# Altium footprint library DAQ.PcbLib: 37 footprints (part 2 of 3)
Each footprint in its own frame and in the unit in brackets; x right, y up, seen from the top. Pads: shape width x height; smd on the part's side, far side on the other; paste and mask are expansions set on the pad; w line width, h text height; cw(c..) or ccw(c..) is an arc to the next point about the centre after c.
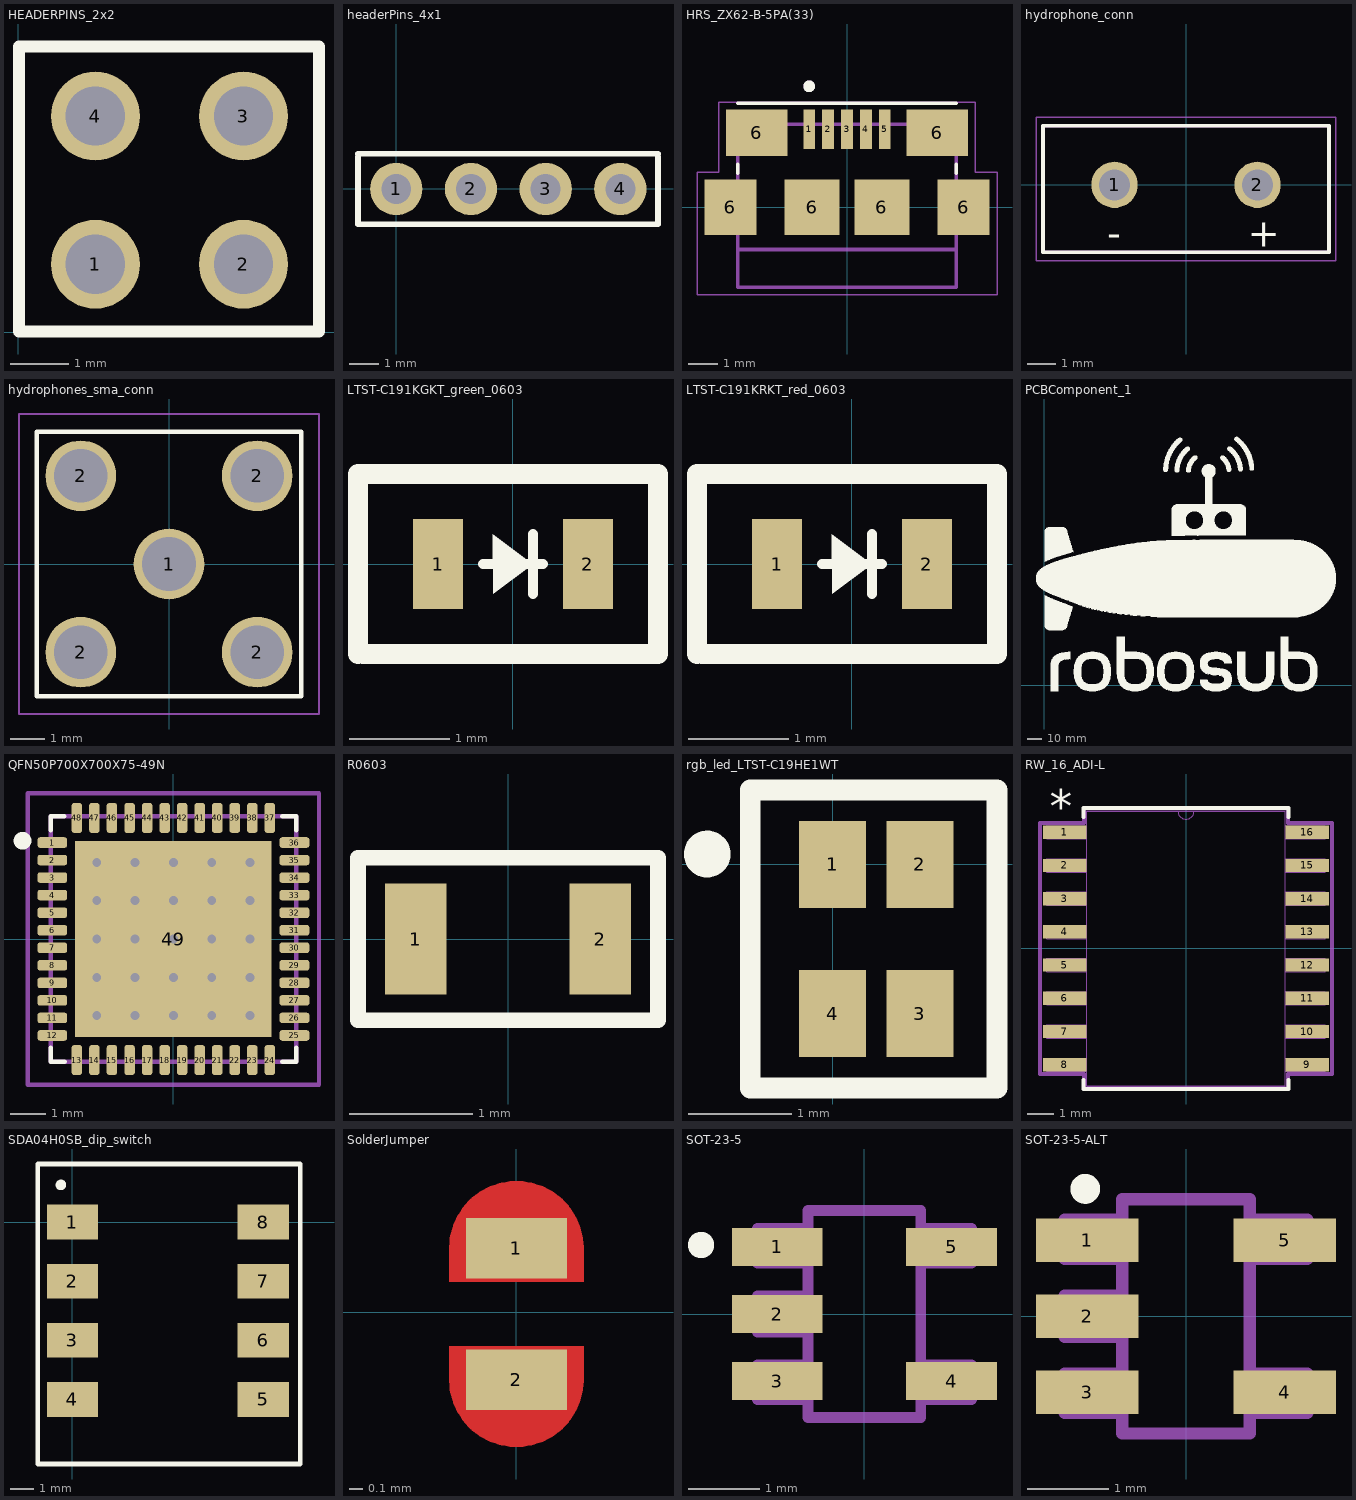
[diagram p1: the footprints below, top view; thin cyan lines are the x and y axes]

## HEADERPINS_2x2 [mil]
pads (4):
  round 60 hole 40: 1(52,46) 2(152,46) 3(152,146) 4(52,146)
Top Overlay:
  lines w7.87: 0.46,0.54 0.46,193 203,193 203,0.54 0.46,0.54
3D body "2x2.stp": height 330.5, standoff -99.5, extent 2,-3 202,197

## headerPins_4x1 [mil]
pads (4):
  round 70 hole 40: 1(0,0) 2(100,0) 3(200,0) 4(300,0)
Top Overlay:
  lines w7.87: -51.18,43.31 -51.18,-47.24 350.39,-47.24 350.39,43.31 ; -51.18,47.24 350.39,47.24

## HRS_ZX62-B-5PA(33) [mm]
pads (11):
  rect 0.4x1.35 smd: 1(-1.3,2.675) 2(-0.65,2.675) 3(0,2.675) 4(0.65,2.675) 5(1.3,2.675)
  rect 1.8x1.9 smd: 6(-4,0) 6(4,0)
  rect 2.1x1.6 smd: 6(-3.1,2.55) 6(3.1,2.55)
  rect 1.9x1.9 smd: 6(-1.2,0) 6(1.2,0)
Top Overlay:
  circle w0.2: c-1.3,4.15 r0.1
  lines w0.127: -3.75,1.17 -3.75,1.47 ; -3.75,3.57 3.75,3.57 ; 3.75,1.17 3.75,1.47
Mechanical 7:
  lines w0.127: -3.75,-1.25 -3.75,-1.45 3.75,-1.45 3.75,-1.25
Mechanical 13:
  circle w0.2: c-1.3,4.15 r0.1
  lines w0.127: -3.75,-2.75 3.75,-2.75 3.75,-1.45 3.75,2.85 -3.75,2.85 -3.75,-2.75
Mechanical 15:
  lines w0.05: -5.15,-3 5.15,-3 5.15,1.2 4.4,1.2 4.4,3.6 -4.4,3.6 -4.4,1.2 -5.15,1.2 -5.15,-3
3D body "ZX62-B-5PA(33).stp": height 2.76, standoff -0.19, extent -4.037,-2.578 4.037,3.023

## hydrophone_conn [mm]
pads (2):
  round 1.65 hole 1.1: 1(-2.54,0) 2(2.54,0)
Top Overlay:
  lines w0.127: -5.08,-2.4 5.08,-2.4 5.08,2.1 -5.08,2.1 -5.08,-2.4
  text "-" at -2.8,-2.2 h1
  text "+" at 2.2,-2.2 h1
Mechanical 4:
  lines w0.127: -5.08,-2.4 5.08,-2.4 ; -5.08,-2.4 -5.08,2.1 ; -5.08,-2.4 5.08,-2.4 ; -5.08,-2.4 -5.08,2.1 ; -5.08,2.1 5.08,2.1 ; -5.08,2.1 5.08,2.1 ; 5.08,-2.4 5.08,2.1 ; 5.08,-2.4 5.08,2.1
Mechanical 16:
  lines w0.05: -5.33,-2.7 5.33,-2.7 5.33,2.4 -5.33,2.4 -5.33,-2.7

## hydrophones_sma_conn [mil]
pads (5):
  round 80 hole 61: 1(0,0) 2(-100,-100) 2(-100,100) 2(100,-100) 2(100,100)
Top Overlay:
  lines w5: -150,-150 150,-150 150,150 -150,150 -150,-110.24 -150,-150
Mechanical 16:
  lines w1.97: -170,-170 -170,170 170,170 170,-170 -170,-170
3D body "731000115.STEP": height 377.27, standoff -154.22, extent -125,-456.69 125,125.98

## LTST-C191KGKT_green_0603 [mm]
pads (2):
  rect 0.5x0.9 smd: 1(-0.75,0) 2(0.75,0)
Top Overlay:
  region: -0.075,0.575
  region: -0.2,0.3 -0.2,-0.3 0.2,0
  lines w0.1: -0.3,0 0.3,0 ; 0.2,-0.3 0.2,0.3
  lines w0.2: -1.55,-0.9 -1.55,0 -1.55,0.9 1.45,0.9 1.45,-0.9 -1.5,-0.9
3D body "LTST-C190KRKT--3DModel-STEP-56544.STEP": height 0.81, standoff 0.01, extent -0.8,-0.4 0.8,0.4

## LTST-C191KRKT_red_0603 [mm]
pads (2):
  rect 0.5x0.9 smd: 1(-0.75,0) 2(0.75,0)
Top Overlay:
  region: -0.075,0.575
  region: -0.2,0.3 -0.2,-0.3 0.2,0
  lines w0.1: -0.3,0 0.3,0 ; 0.2,-0.3 0.2,0.3
  lines w0.2: -1.55,-0.9 -1.55,0 -1.55,0.9 1.45,0.9 1.45,-0.9 -1.5,-0.9
3D body "LTST-C190KRKT--3DModel-STEP-56544.STEP": height 0.81, standoff 0.01, extent -0.8,-0.4 0.8,0.4

## PCBComponent_1 [mm]
Top Overlay:
  drawing of 17 lines, arcs and shapes, not listed

## QFN50P700X700X75-49N [mm]
pads (49):
  rrect50% 0.85x0.3 smd paste-0.025: 1(-3.45,2.75) 2(-3.45,2.25) 3(-3.45,1.75) 4(-3.45,1.25) 5(-3.45,0.75) 6(-3.45,0.25) 7(-3.45,-0.25) 8(-3.45,-0.75) 9(-3.45,-1.25) 10(-3.45,-1.75) 11(-3.45,-2.25) 12(-3.45,-2.75) 25(3.45,-2.75) 26(3.45,-2.25) 27(3.45,-1.75) 28(3.45,-1.25) 29(3.45,-0.75) 30(3.45,-0.25) 31(3.45,0.25) 32(3.45,0.75) 33(3.45,1.25) 34(3.45,1.75) 35(3.45,2.25) 36(3.45,2.75)
  rrect50% 0.3x0.85 smd paste-0.025: 13(-2.75,-3.45) 14(-2.25,-3.45) 15(-1.75,-3.45) 16(-1.25,-3.45) 17(-0.75,-3.45) 18(-0.25,-3.45) 19(0.25,-3.45) 20(0.75,-3.45) 21(1.25,-3.45) 22(1.75,-3.45) 23(2.25,-3.45) 24(2.75,-3.45) 37(2.75,3.45) 38(2.25,3.45) 39(1.75,3.45) 40(1.25,3.45) 41(0.75,3.45) 42(0.25,3.45) 43(-0.25,3.45) 44(-0.75,3.45) 45(-1.25,3.45) 46(-1.75,3.45) 47(-2.25,3.45) 48(-2.75,3.45)
  rect 5.6x5.6 smd paste-2.54: 49(0,0)
via -2.184,-2.184 diameter 0.559 hole 0.254
via -1.092,-2.184 diameter 0.559 hole 0.254
via 0,-2.184 diameter 0.559 hole 0.254
via 1.092,-2.184 diameter 0.559 hole 0.254
via 2.184,-2.184 diameter 0.559 hole 0.254
via 2.184,-1.092 diameter 0.559 hole 0.254
via 1.092,-1.092 diameter 0.559 hole 0.254
via 0,-1.092 diameter 0.559 hole 0.254
via -1.092,-1.092 diameter 0.559 hole 0.254
via -2.184,-1.092 diameter 0.559 hole 0.254
via -2.184,2.184 diameter 0.559 hole 0.254
via -2.184,1.092 diameter 0.559 hole 0.254
via -2.184,0 diameter 0.559 hole 0.254
via -1.092,0 diameter 0.559 hole 0.254
via -1.092,1.092 diameter 0.559 hole 0.254
via -1.092,2.184 diameter 0.559 hole 0.254
via 1.092,2.184 diameter 0.559 hole 0.254
via 2.184,2.184 diameter 0.559 hole 0.254
via 2.184,1.092 diameter 0.559 hole 0.254
via 1.092,1.092 diameter 0.559 hole 0.254
via 2.184,0 diameter 0.559 hole 0.254
via 1.092,0 diameter 0.559 hole 0.254
via 0,2.184 diameter 0.559 hole 0.254
via 0,1.092 diameter 0.559 hole 0.254
via 0,0 diameter 0.559 hole 0.254
Top Overlay:
  circle w0.305: c-4.3,2.8 r0.1
  lines w0.127: -3.5,-3.1 -3.5,-3.5 -3.1,-3.5 ; -3.5,3.104 -3.5,3.5 -3.104,3.5 ; 3.1,-3.5 3.5,-3.5 3.5,-3.1 ; 3.104,3.5 3.5,3.5 3.5,3.104
Mechanical 13:
  lines w0.127: -3.5,-3.5 -3.5,3.5 3.5,3.5 3.5,-3.5 -3.5,-3.5
Mechanical 15:
  lines w0.127: -4.15,-4.15 4.15,-4.15 4.15,4.15 -4.15,4.15 -4.15,-4.15
3D body "CS_48_1_ADI.step": height 0.97, standoff 0, extent -3.5,-3.5 3.5,3.5

## R0603 [mm]
pads (2):
  rect 0.5x0.9 smd: 1(-0.75,0) 2(0.75,0)
Top Overlay:
  lines w0.127: -1.219,-0.66 -1.219,-0.028 -1.219,0.66 1.219,0.66 1.219,-0.66 -1.219,-0.66
3D body "C0603.step": height 0.81, standoff 0.01, extent -0.8,-0.4 0.8,0.4

## rgb_led_LTST-C19HE1WT [mm]
pads (4):
  rect 0.65x0.85 smd: 1(0,0) 2(0.85,0) 3(0.85,-1.45) 4(0,-1.45)
Top Overlay:
  circle w0.254: c-1.219,0.102 r0.1
  lines w0.2: 0.063,0.725 1.6,0.725 1.6,-2.175 -0.8,-2.175 -0.8,0.725 0.787,0.725
3D body: height 0.25, standoff -12.09, extent 2.4,-0.2 2.4,-0.2
3D body "LTST-C19HE1WT--3DModel-STEP-56544.STEP": height 0.36, standoff 0.01, extent -0.375,-1.525 1.225,0.075

## RW_16_ADI-L [mil]
pads (16):
  rect 66x20 smd paste+0 mask+0: 1(-182.5,175) 2(-182.5,125) 3(-182.5,75) 4(-182.5,25) 5(-182.5,-25) 6(-182.5,-75) 7(-182.5,-125) 8(-182.5,-175) 9(182.5,-175) 10(182.5,-125) 11(182.5,-75) 12(182.5,-25) 13(182.5,25) 14(182.5,75) 15(182.5,125) 16(182.5,175)
Top Overlay:
  lines w6: -154.5,-198.1 -154.5,-211.5 154.5,-211.5 154.5,-198.1 ; -154.5,198.1 -154.5,211.5 154.5,211.5 154.5,198.1
  text "*" at -205,190 h50
Mechanical 13:
  lines w0: -12,206.5 ccw(c0,206.5) 12,206.5
  lines w1: -209.5,-185 -209.5,-165 -149.5,-165 -149.5,-185 -209.5,-185 ; -209.5,-135 -209.5,-115 -149.5,-115 -149.5,-135 -209.5,-135 ; -209.5,-85 -209.5,-65 -149.5,-65 -149.5,-85 -209.5,-85 ; -209.5,-35 -209.5,-15 -149.5,-15 -149.5,-35 -209.5,-35 ; -209.5,15 -209.5,35 -149.5,35 -149.5,15 -209.5,15 ; -209.5,65 -209.5,85 -149.5,85 -149.5,65 -209.5,65 ; -209.5,115 -209.5,135 -149.5,135 -149.5,115 -209.5,115 ; -209.5,165 -209.5,185 -149.5,185 -149.5,165 -209.5,165 ; -149.5,-206.5 149.5,-206.5 149.5,206.5 -149.5,206.5 -149.5,-206.5 ; 149.5,-185 149.5,-165 209.5,-165 209.5,-185 149.5,-185 ; 149.5,-135 149.5,-115 209.5,-115 209.5,-135 149.5,-135 ; 149.5,-85 149.5,-65 209.5,-65 209.5,-85 149.5,-85 ; 149.5,-35 149.5,-15 209.5,-15 209.5,-35 149.5,-35 ; 149.5,15 149.5,35 209.5,35 209.5,15 149.5,15 ; 149.5,65 149.5,85 209.5,85 209.5,65 149.5,65 ; 149.5,115 149.5,135 209.5,135 209.5,115 149.5,115 ; 149.5,165 149.5,185 209.5,185 209.5,165 149.5,165
  text "*" at -147,153.5 h50
Mechanical 15:
  lines w6: -219.5,-189 -219.5,189 -153.5,189 -153.5,210.5 153.5,210.5 153.5,189 219.5,189 219.5,-189 153.5,-189 153.5,-210.5 -153.5,-210.5 -153.5,-189 -219.5,-189
3D body "RW_16_ADI.step": height 104.09, standoff 0, extent -209.48,-206.5 209.49,206.5

## SDA04H0SB_dip_switch [mm]
pads (8):
  rect 2.2x1.5 smd: 1(0,0) 2(0,-2.54) 3(0,-5.08) 4(0,-7.62) 5(8.2,-7.62) 6(8.2,-5.08) 7(8.2,-2.54) 8(8.2,0)
Top Overlay:
  circle w0.254: c-0.5,1.6 r0.1
  lines w0.2: -1.5,-10.4 -1.5,2.5 9.8,2.5 9.8,-10.4 -1.5,-10.4
3D body "SDA04H0SBR.stp": height 4.51, standoff 0.01, extent -0.6,-9.845 8.7,2.245

## SolderJumper [mil]
pads (2):
  rect 30x18 smd paste+0 mask+0: 1(0,19) 2(0,-20)
Top Layer:
  region: 20,-10 -20,-10 -20,-20 20,-20
  rectangle: -20,9 20,19
  region: -30,-4
  region: -15,-20 -10,-20 0,-10 10,-10 10,-26.03 12.4,-28.44 6.94,-33.9 -5.64,-33.9
  region: -3.62,33.56 -15,22.17 -15,19 20,9 8.19,25.81 8.19,31.57
  lines w10: -15,-20 ccw(c0,-20) 15,-20 ; -15,19 cw(c0,19) 15,19
Top Solder:
  region: 25,-6 25,-30 10,-45 -10,-45 -15,-40 -25,-30 -25,-6
  region: -25,5 -25,29 -10,44 10,44 15,39 25,29 25,5

## SOT-23-5 [mil]
pads (5):
  rect 50x21 smd: 1(-48,37) 2(-48,0) 3(-48,-37) 4(48,-37) 5(48,37)
Top Overlay:
  circle w10: c-90,38 r2.24
Mechanical 4:
  lines w6: -59,-47 -31,-47 ; -59,-47 -59,-28 ; -59,-47 -31,-47 ; -59,-47 -59,-28 ; -59,-28 -31,-28 ; -59,-28 -31,-28 ; -59,-10 -31,-10 ; -59,-10 -59,10 ; -59,-10 -31,-10 ; -59,-10 -59,10 ; -59,10 -31,10 ; -59,10 -31,10 ; -59,28 -31,28 ; -59,28 -59,47 ; -59,28 -31,28 ; -59,28 -59,47 ; -59,47 -31,47 ; -59,47 -31,47 ; -31,-57 -31,57 ; -31,-57 31,-57 ; -31,-57 -31,57 ; -31,-57 31,-57 ; -31,-47 -31,-28 ; -31,-47 -31,-28 ; -31,-10 -31,10 ; -31,-10 -31,10 ; -31,28 -31,47 ; -31,28 -31,47 ; -31,57 31,57 ; -31,57 31,57 ; 31,-57 31,57 ; 31,-57 31,57 ; 31,-47 59,-47 ; 31,-47 31,-28 ; 31,-47 59,-47 ; 31,-47 31,-28 ; 31,-28 59,-28 ; 31,-28 59,-28 ; 31,28 59,28 ; 31,28 31,47 ; 31,28 59,28 ; 31,28 31,47 ; 31,47 59,47 ; 31,47 59,47 ; 59,-47 59,-28 ; 59,-47 59,-28 ; 59,28 59,47 ; 59,28 59,47
3D body "SOT-23-5.STEP": height 51.68, standoff -5.41, extent -55.12,-57.1 55.12,57.08

## SOT-23-5-ALT [mil]
pads (5):
  rect 50x21 smd: 1(-48,37) 2(-48,0) 3(-48,-37) 4(48,-37) 5(48,37)
Top Overlay:
  circle w10: c-49,62 r2.24
Mechanical 4:
  lines w6: -59,-47 -59,-28 ; -59,-47 -31,-47 ; -59,-47 -59,-28 ; -59,-47 -31,-47 ; -59,-28 -31,-28 ; -59,-28 -31,-28 ; -59,-10 -59,10 ; -59,-10 -31,-10 ; -59,-10 -59,10 ; -59,-10 -31,-10 ; -59,10 -31,10 ; -59,10 -31,10 ; -59,28 -59,47 ; -59,28 -31,28 ; -59,28 -59,47 ; -59,28 -31,28 ; -59,47 -31,47 ; -59,47 -31,47 ; -31,-57 31,-57 ; -31,-57 -31,57 ; -31,-57 31,-57 ; -31,-57 -31,57 ; -31,-47 -31,-28 ; -31,-47 -31,-28 ; -31,-10 -31,10 ; -31,-10 -31,10 ; -31,28 -31,47 ; -31,28 -31,47 ; -31,57 31,57 ; -31,57 31,57 ; 31,-57 31,57 ; 31,-57 31,57 ; 31,-47 31,-28 ; 31,-47 59,-47 ; 31,-47 31,-28 ; 31,-47 59,-47 ; 31,-28 59,-28 ; 31,-28 59,-28 ; 31,28 31,47 ; 31,28 59,28 ; 31,28 31,47 ; 31,28 59,28 ; 31,47 59,47 ; 31,47 59,47 ; 59,-47 59,-28 ; 59,-47 59,-28 ; 59,28 59,47 ; 59,28 59,47
3D body "SOT-23-5.STEP": height 51.68, standoff -5.41, extent -55.12,-57.1 55.12,57.08